# EAGLE library part EPCS4SI8N (library robotter_ic)
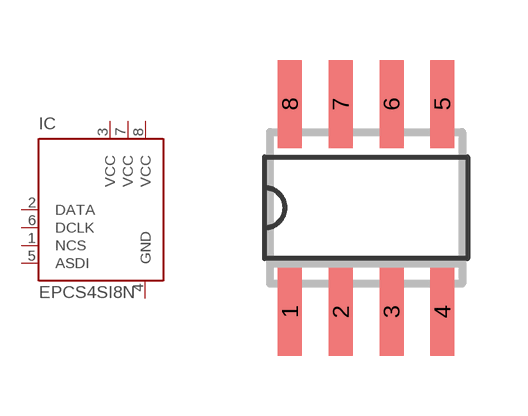
[diagram p5: symbol with the pads of SO8; footprint SO8]

Designator prefix IC

## EPCS4SI8N  [SO8]
1  NCS
2  DATA
3  VCC
4  GND
5  ASDI
6  DCLK
7  VCC
8  VCC

## Footprint SO8 (pad centres in mm)
8-Lead Small Outline IC (SO-8) Source: http://www.analog.com/UploadedFiles/Data_Sheets/703465986AD8611_2_0.pdf
smd 0.6 x 2.2: 1 -1.905,-2.6; 2 -0.635,-2.6; 3 0.635,-2.6; 4 1.905,-2.6; 5 1.905,2.6; 6 0.635,2.6; 7 -0.635,2.6; 8 -1.905,2.6